# Altium schematic symbol library Connector_.SchLib: 121 symbols
Pins are listed as number, name and electrical type; pins without a type are passive.

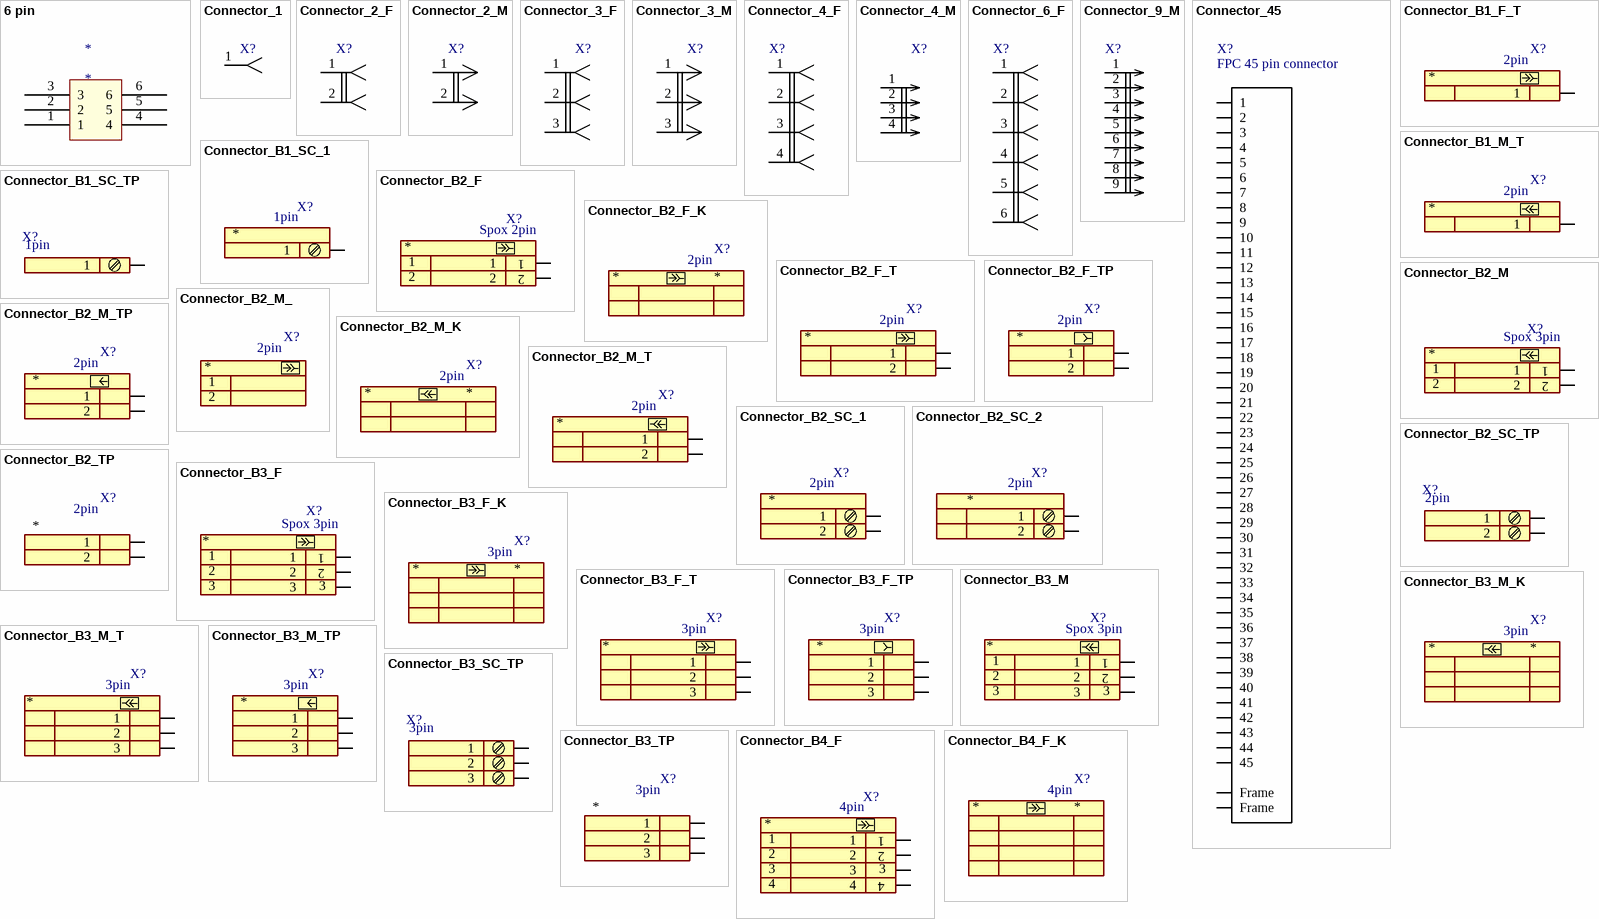
[diagram p0: symbols 6 pin to Connector_B4_F_K]

## 6 pin
designator *
pins: 1, 2, 3, 4, 5, 6

## Connector_1
designator X?, comment Connector  (value not drawn)
pins: 1

## Connector_2_F
designator X?  (value not drawn)
Connector
pins: 1, 2

## Connector_2_M
designator X?  (value not drawn)
Connector
pins: 1, 2

## Connector_3_F
designator X?  (value not drawn)
Connector
pins: 1, 2, 3

## Connector_3_M
designator X?  (value not drawn)
Connector
pins: 1, 2, 3

## Connector_4_F
designator X?  (value not drawn)
Connector
pins: 1, 2, 3, 4

## Connector_4_M
designator X?  (value not drawn)
Connector
pins: 1, 2, 3, 4

## Connector_6_F
designator X?  (value not drawn)
Connector
pins: 1, 2, 3, 4, 5, 6

## Connector_9_M
designator X?  (value not drawn)
Connector
pins: 1, 2, 3, 4, 5, 6, 7, 8, 9

## Connector_45
designator X?, comment FPC 45 pin connector
footprint FPC-45-0.5
pins: 1, 2, 3, 4, 5, 6, 7, 8, 9, 10, 11, 12, 13, 14, 15, 16, 17, 18, 19, 20, 21, 22, 23, 24, 25, 26, 27, 28, 29, 30, 31, 32, 33, 34, 35, 36, 37, 38, 39, 40, 41, 42, 43, 44, 45, 46 Frame, 47 Frame

## Connector_B1_F_T
designator X?  value 2pin  (hidden comment: *)
Connector; Catalog: *; catalog number: *; PCB value: *
pins: 1

## Connector_B1_M_T
designator X?  value 2pin  (hidden comment: *)
Connector; Catalog: *; catalog number: *; PCB value: *
pins: 1

## Connector_B1_SC_1
designator X?  value 1pin  (hidden comment: *)
Connector; Catalog: *; Catalog number: *; PCB value: *
pins: 1

## Connector_B1_SC_TP
designator X?  value 1pin  (hidden comment: *)
Connector; Catalog: *; Catalog number: *; PCB value: *
footprint PK 7402
pins: 1

## Connector_B2_F
designator X?  value Spox 2pin  (hidden comment: *)
Connector; Catalog: *; catalog number: *; PCB value: *
pins: 1, 2

## Connector_B2_F_K
designator X?  value 2pin  (hidden comment: *)
Connector; Catalog: *; catalog number: *; PCB value: *; PCB Value: *

## Connector_B2_F_T
designator X?  value 2pin  (hidden comment: *)
Connector; Catalog: *; catalog number: *; PCB value: *
pins: 1, 2

## Connector_B2_F_TP
designator X?  value 2pin  (hidden comment: *)
Connector; Catalog: *; catalog number: *; PCB value: *
pins: 1, 2

## Connector_B2_M
designator X?  value Spox 3pin  (hidden comment: *)
Connector; Catalog: *; Catalog number: *; PCB value: *
pins: 1, 2

## Connector_B2_M_
designator X?  value 2pin  (hidden comment: *)
Connector; Catalog: *; catalog number: *; PCB value: *
text: 1; 2

## Connector_B2_M_K
designator X?  value 2pin  (hidden comment: *)
Connector; Catalog: *; catalog number: *; PCB value: *; PCB Value_: *

## Connector_B2_M_T
designator X?  value 2pin  (hidden comment: *)
Connector; Catalog: *; catalog number: *; PCB value: *
pins: 1, 2

## Connector_B2_M_TP
designator X?  value 2pin  (hidden comment: *)
Connector; Catalog: *; catalog number: *; PCB value: *
pins: 1, 2

## Connector_B2_SC_1
designator X?  value 2pin  (hidden comment: *)
Connector; Catalog: *; Catalog number: *; PCB value: *
pins: 1, 2

## Connector_B2_SC_2
designator X?  value 2pin  (hidden comment: *)
Connector; Catalog: *; Catalog number: *; PCB value: *
pins: 1, 2

## Connector_B2_SC_TP
designator X?  value 2pin  (hidden comment: *)
Connector; Catalog: *; Catalog number: *; PCB value: *
footprint PK 7402
pins: 1, 2

## Connector_B2_TP
designator X?  value 2pin  (hidden comment: *)
Connector; Catalog: *; catalog number: *; PCB value: *
pins: 1, 2

## Connector_B3_F
designator X?  value Spox 3pin  (hidden comment: *)
Connector; Catalog: Elfa; Catalog number: *; PCB value: *
pins: 1, 2, 3

## Connector_B3_F_K
designator X?  value 3pin  (hidden comment: *)
Connector; Catalog: *; catalog number: *; PCB value: *; PCB Value_: *

## Connector_B3_F_T
designator X?  value 3pin  (hidden comment: *)
Connector; Catalog: *; Catalog number: *; PCB value: *
pins: 1, 2, 3

## Connector_B3_F_TP
designator X?  value 3pin  (hidden comment: *)
Connector; Catalog: *; Catalog number: *; PCB value: *
pins: 1, 2, 3

## Connector_B3_M
designator X?  value Spox 3pin  (hidden comment: *)
Connector; Catalog: *; Catalog number: *; PCB value: *
pins: 1, 2, 3

## Connector_B3_M_K
designator X?  value 3pin  (hidden comment: *)
Connector; Catalog: *; catalog number: *; PCB value: *; PCB Value_: *

## Connector_B3_M_T
designator X?  value 3pin  (hidden comment: *)
Connector; Catalog: *; Catalog number: *; PCB value: *
pins: 1, 2, 3

## Connector_B3_M_TP
designator X?  value 3pin  (hidden comment: *)
Connector; Catalog: *; Catalog number: *; PCB value: *
pins: 1, 2, 3

## Connector_B3_SC_TP
designator X?  value 3pin  (hidden comment: *)
Connector; Catalog: *; Catalog number: *; PCB value: *
footprint PK 7003
pins: 1, 2, 3

## Connector_B3_TP
designator X?  value 3pin  (hidden comment: *)
Connector; Catalog: *; Catalog number: *; PCB value: *
pins: 1, 2, 3

## Connector_B4_F
designator X?  value 4pin  (hidden comment: *)
Connector; Catalog: *; Catalog number: *; PCB value: *
pins: 1, 2, 3, 4

## Connector_B4_F_K
designator X?  value 4pin  (hidden comment: *)
Connector; Catalog: *; catalog number: *; PCB value: *; PCB Value_: *

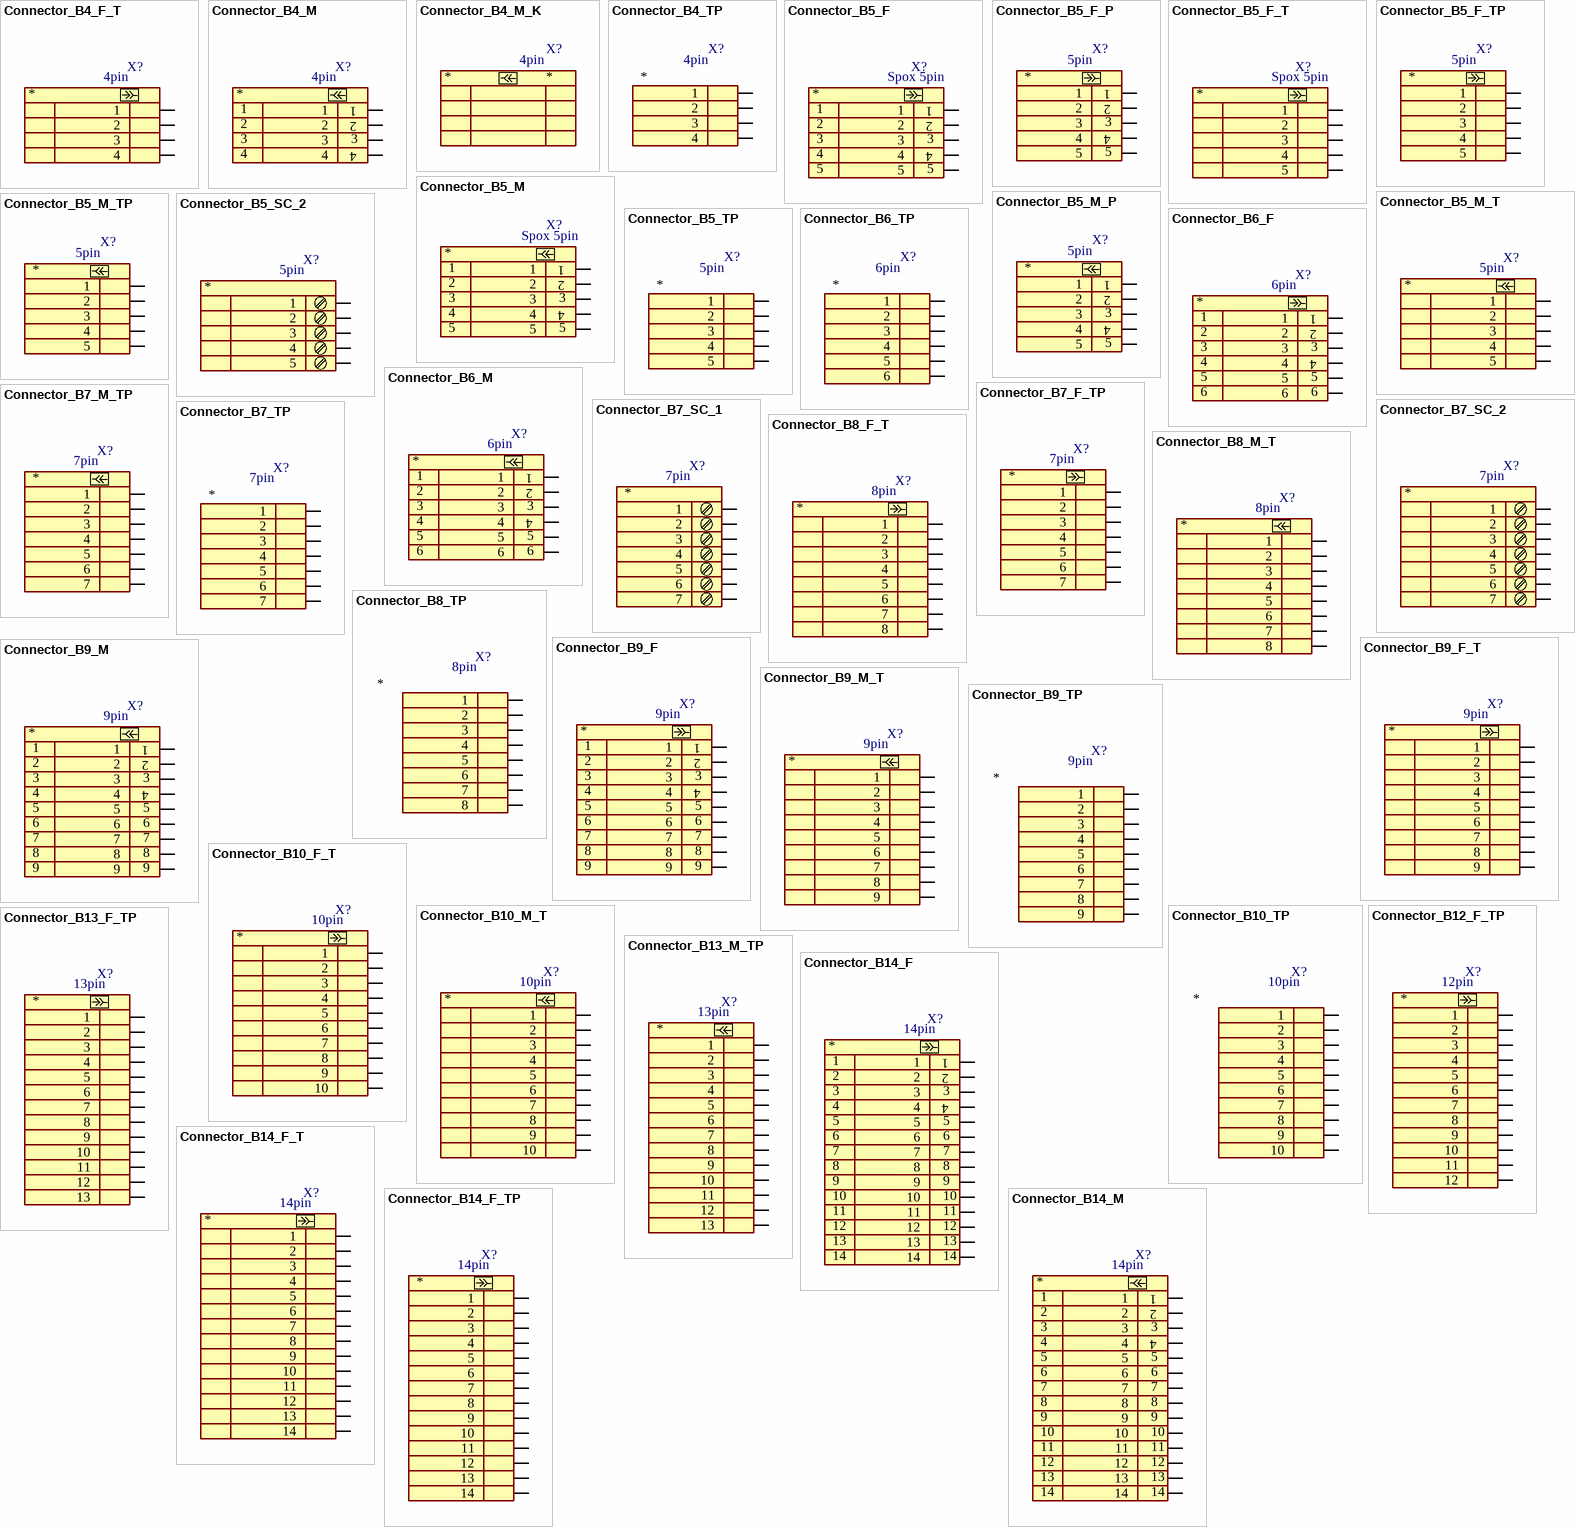
[diagram p1: symbols Connector_B4_F_T to Connector_B14_M]

## Connector_B4_F_T
designator X?  value 4pin  (hidden comment: *)
Connector; Catalog: *; Catalog number: *; PCB value: *
pins: 1, 2, 3, 4

## Connector_B4_M
designator X?  value 4pin  (hidden comment: *)
Connector; Catalog: *; Catalog number: *; PCB value: *
pins: 1, 2, 3, 4

## Connector_B4_M_K
designator X?  value 4pin  (hidden comment: *)
Connector; Catalog: *; catalog number: *; PCB value: *; PCB Value_: *

## Connector_B4_TP
designator X?  value 4pin  (hidden comment: *)
Connector; Catalog: *; Catalog number: *; PCB value: *
pins: 1, 2, 3, 4

## Connector_B5_F
designator X?  value Spox 5pin  (hidden comment: *)
Connector; Catalog: *; Catalog number: *; PCB value: *
pins: 1, 2, 3, 4, 5

## Connector_B5_F_P
designator X?  value 5pin  (hidden comment: *)
Connector; Catalog: *; Catalog number: *; PCB value: *
pins: 1, 2, 3, 4, 5

## Connector_B5_F_T
designator X?  value Spox 5pin  (hidden comment: *)
Connector; Catalog: *; Catalog number: *; PCB value: *
pins: 1, 2, 3, 4, 5

## Connector_B5_F_TP
designator X?  value 5pin  (hidden comment: *)
Connector; Catalog: *; Catalog number: *; PCB value: *
pins: 1, 2, 3, 4, 5

## Connector_B5_M
designator X?  value Spox 5pin  (hidden comment: *)
Connector; Catalog: *; Catalog number: *; PCB value: *
pins: 1, 2, 3, 4, 5

## Connector_B5_M_P
designator X?  value 5pin  (hidden comment: *)
Connector; Catalog: *; Catalog number: *; PCB value: *
pins: 1, 2, 3, 4, 5

## Connector_B5_M_T
designator X?  value 5pin  (hidden comment: *)
Connector; Catalog: *; Catalog number: *; PCB value: *
pins: 1, 2, 3, 4, 5

## Connector_B5_M_TP
designator X?  value 5pin  (hidden comment: *)
Connector; Catalog: *; Catalog number: *; PCB value: *
pins: 1, 2, 3, 4, 5

## Connector_B5_SC_2
designator X?  value 5pin  (hidden comment: *)
Connector; Catalog: *; Catalog number: *; PCB value: *
pins: 1, 2, 3, 4, 5

## Connector_B5_TP
designator X?  value 5pin  (hidden comment: *)
Connector; Catalog: *; Catalog number: *; PCB value: *
pins: 1, 2, 3, 4, 5

## Connector_B6_F
designator X?  value 6pin  (hidden comment: *)
Connector; Catalog: *; Catalog number: *; PCB value: *
pins: 1, 2, 3, 4, 5, 6

## Connector_B6_M
designator X?  value 6pin  (hidden comment: *)
Connector; Catalog: *; Catalog number: *; PCB value: *
pins: 1, 2, 3, 4, 5, 6

## Connector_B6_TP
designator X?  value 6pin  (hidden comment: *)
Connector; Catalog: *; Catalog number: *; PCB value: *
pins: 1, 2, 3, 4, 5, 6

## Connector_B7_F_TP
designator X?  value 7pin  (hidden comment: *)
Connector; Catalog: *; Catalog number: *; PCB value: *
pins: 1, 2, 3, 4, 5, 6, 7

## Connector_B7_M_TP
designator X?  value 7pin  (hidden comment: *)
Connector; Catalog: *; Catalog number: *; PCB value: *
pins: 1, 2, 3, 4, 5, 6, 7

## Connector_B7_SC_1
designator X?  value 7pin  (hidden comment: *)
Connector; Catalog: *; Catalog number: *; PCB value: *
pins: 1, 2, 3, 4, 5, 6, 7

## Connector_B7_SC_2
designator X?  value 7pin  (hidden comment: *)
Connector; Catalog: *; Catalog number: *; PCB value: *
pins: 1, 2, 3, 4, 5, 6, 7

## Connector_B7_TP
designator X?  value 7pin  (hidden comment: *)
Connector; Catalog: *; Catalog number: *; PCB value: *
pins: 1, 2, 3, 4, 5, 6, 7

## Connector_B8_F_T
designator X?  value 8pin  (hidden comment: *)
Connector; Catalog: *; Catalog number: *; PCB value: *
pins: 1, 2, 3, 4, 5, 6, 7, 8

## Connector_B8_M_T
designator X?  value 8pin  (hidden comment: *)
Connector; Catalog: *; Catalog number: *; PCB value: *
pins: 1, 2, 3, 4, 5, 6, 7, 8

## Connector_B8_TP
designator X?  value 8pin  (hidden comment: *)
Connector; Catalog: *; Catalog number: *; PCB value: *
pins: 1, 2, 3, 4, 5, 6, 7, 8

## Connector_B9_F
designator X?  value 9pin  (hidden comment: *)
Connector; Catalog: *; Catalog number: *; PCB value: *
pins: 1, 2, 3, 4, 5, 6, 7, 8, 9

## Connector_B9_F_T
designator X?  value 9pin  (hidden comment: *)
Connector; Catalog: *; Catalog number: *; PCB value: *
pins: 1, 2, 3, 4, 5, 6, 7, 8, 9

## Connector_B9_M
designator X?  value 9pin  (hidden comment: *)
Connector; Catalog: *; Catalog number: *; PCB value: *
pins: 1, 2, 3, 4, 5, 6, 7, 8, 9

## Connector_B9_M_T
designator X?  value 9pin  (hidden comment: *)
Connector; Catalog: *; Catalog number: *; PCB value: *
pins: 1, 2, 3, 4, 5, 6, 7, 8, 9

## Connector_B9_TP
designator X?  value 9pin  (hidden comment: *)
Connector; Catalog: *; Catalog number: *; PCB value: *
pins: 1, 2, 3, 4, 5, 6, 7, 8, 9

## Connector_B10_F_T
designator X?  value 10pin  (hidden comment: *)
Connector; Catalog: *; Catalog number: *; PCB value: *
pins: 1, 2, 3, 4, 5, 6, 7, 8, 9, 10

## Connector_B10_M_T
designator X?  value 10pin  (hidden comment: *)
Connector; Catalog: *; Catalog number: *; PCB value: *
pins: 1, 2, 3, 4, 5, 6, 7, 8, 9, 10

## Connector_B10_TP
designator X?  value 10pin  (hidden comment: *)
Connector; Catalog: *; Catalog number: *; PCB value: *
pins: 1, 2, 3, 4, 5, 6, 7, 8, 9, 10

## Connector_B12_F_TP
designator X?  value 12pin  (hidden comment: *)
Connector; Catalog: *; Catalog number: *; PCB value: *
pins: 1, 2, 3, 4, 5, 6, 7, 8, 9, 10, 11, 12

## Connector_B13_F_TP
designator X?  value 13pin  (hidden comment: *)
Connector; Catalog: *; Catalog number: *; PCB value: *
pins: 1, 2, 3, 4, 5, 6, 7, 8, 9, 10, 11, 12, 13

## Connector_B13_M_TP
designator X?  value 13pin  (hidden comment: *)
Connector; Catalog: *; Catalog number: *; PCB value: *
pins: 1, 2, 3, 4, 5, 6, 7, 8, 9, 10, 11, 12, 13

## Connector_B14_F
designator X?  value 14pin  (hidden comment: *)
Connector; Catalog: *; Catalog number: *; PCB value: *
pins: 1, 2, 3, 4, 5, 6, 7, 8, 9, 10, 11, 12, 13, 14

## Connector_B14_F_T
designator X?  value 14pin  (hidden comment: *)
Connector; Catalog: *; Catalog number: *; PCB value: *
pins: 1, 2, 3, 4, 5, 6, 7, 8, 9, 10, 11, 12, 13, 14

## Connector_B14_F_TP
designator X?  value 14pin  (hidden comment: *)
Connector; Catalog: *; Catalog number: *; PCB value: *
pins: 1, 2, 3, 4, 5, 6, 7, 8, 9, 10, 11, 12, 13, 14

## Connector_B14_M
designator X?  value 14pin  (hidden comment: *)
Connector; Catalog: *; Catalog number: *; PCB value: *
pins: 1, 2, 3, 4, 5, 6, 7, 8, 9, 10, 11, 12, 13, 14

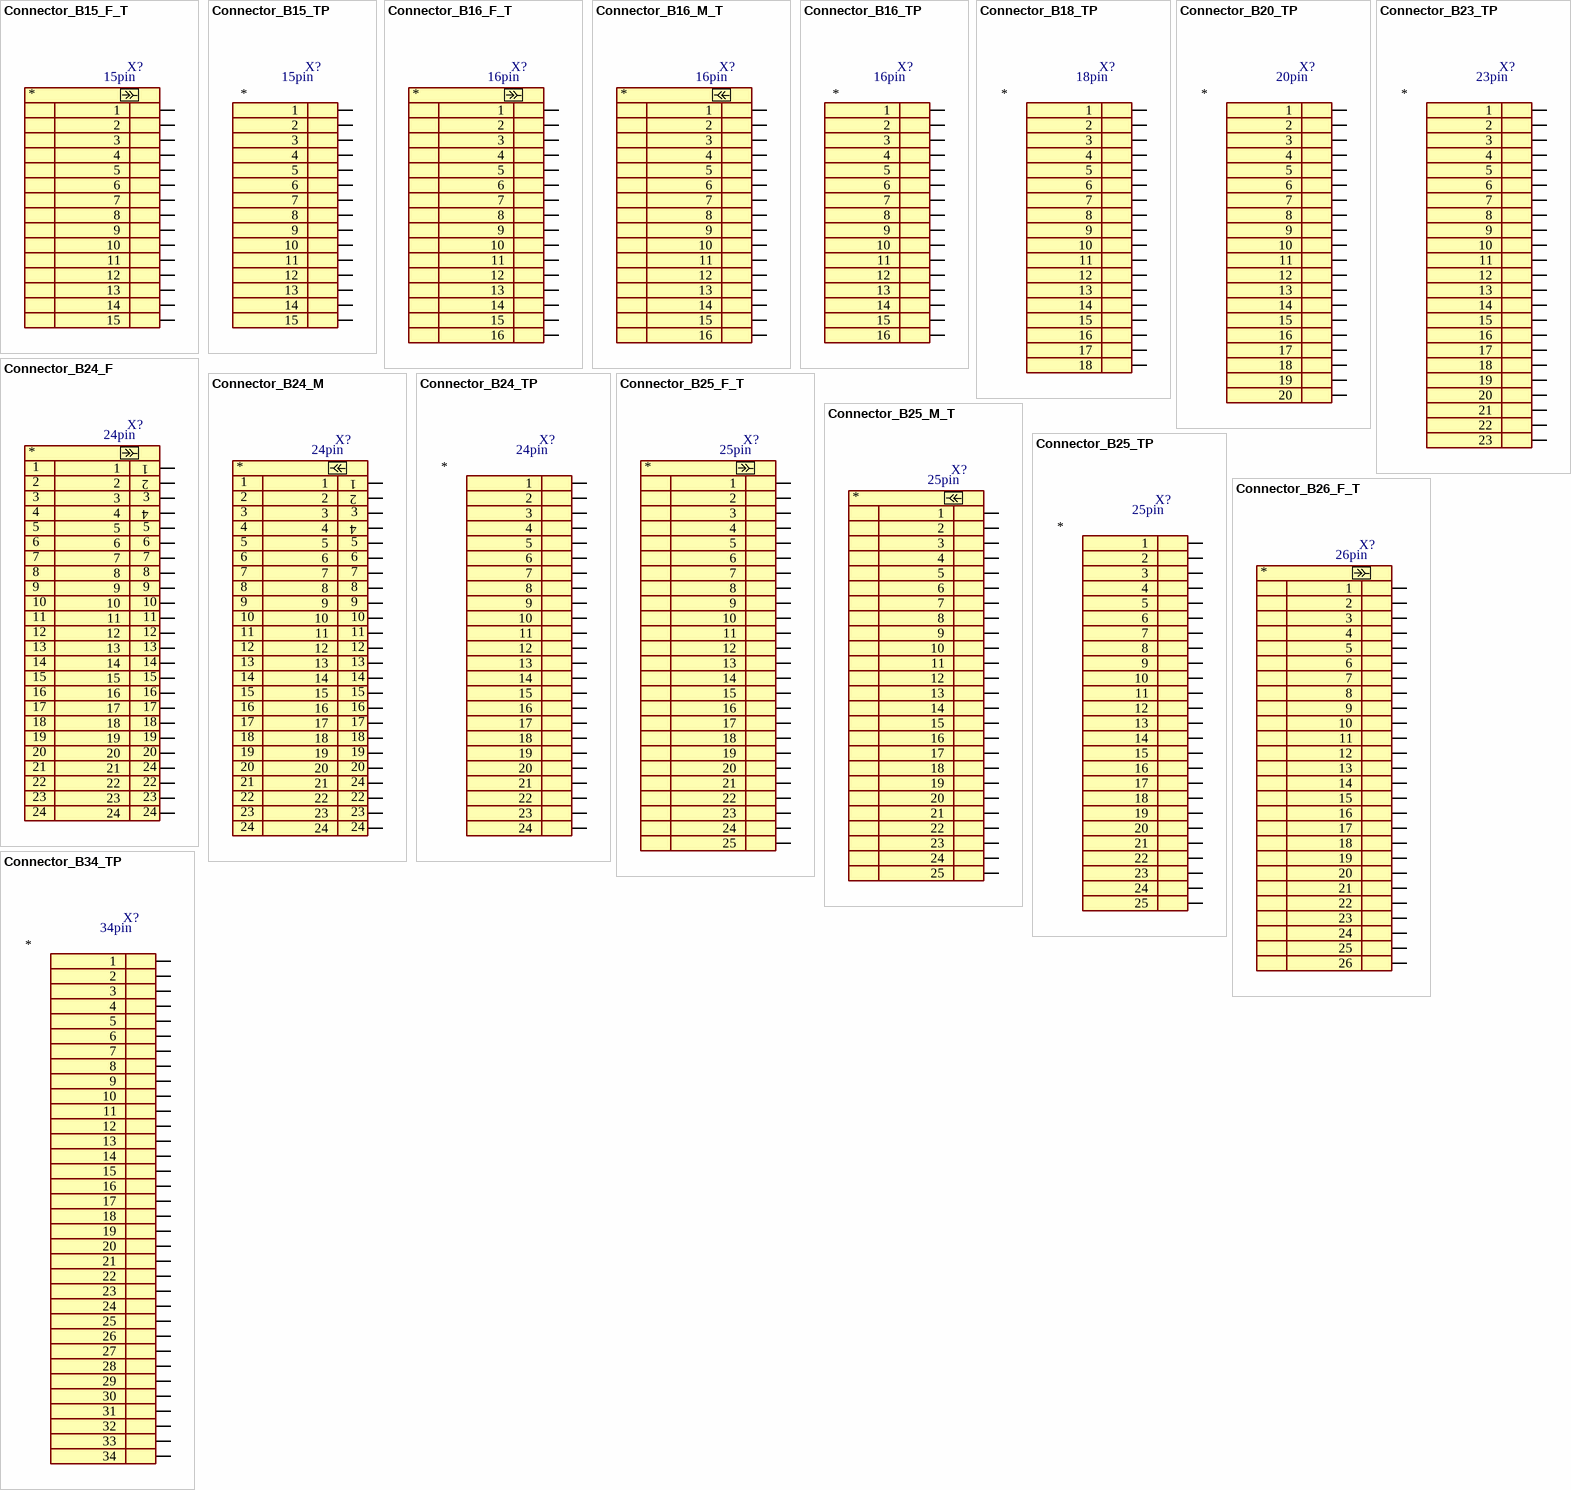
[diagram p2: symbols Connector_B15_F_T to Connector_B34_TP]

## Connector_B15_F_T
designator X?  value 15pin  (hidden comment: *)
Connector; Catalog: *; Catalog number: *; PCB value: *
pins: 1, 2, 3, 4, 5, 6, 7, 8, 9, 10, 11, 12, 13, 14, 15

## Connector_B15_TP
designator X?  value 15pin  (hidden comment: *)
Connector; Catalog: *; Catalog number: *; PCB value: *
pins: 1, 2, 3, 4, 5, 6, 7, 8, 9, 10, 11, 12, 13, 14, 15

## Connector_B16_F_T
designator X?  value 16pin  (hidden comment: *)
Connector; Catalog: *; Catalog number: *; PCB value: *
pins: 1, 2, 3, 4, 5, 6, 7, 8, 9, 10, 11, 12, 13, 14, 15, 16

## Connector_B16_M_T
designator X?  value 16pin  (hidden comment: *)
Connector; Catalog: *; Catalog number: *; PCB value: *
pins: 1, 2, 3, 4, 5, 6, 7, 8, 9, 10, 11, 12, 13, 14, 15, 16

## Connector_B16_TP
designator X?  value 16pin  (hidden comment: *)
Connector; Catalog: *; Catalog number: *; PCB value: *
pins: 1, 2, 3, 4, 5, 6, 7, 8, 9, 10, 11, 12, 13, 14, 15, 16

## Connector_B18_TP
designator X?  value 18pin  (hidden comment: *)
Connector; Catalog: *; Catalog number: *; PCB value: *
pins: 1, 2, 3, 4, 5, 6, 7, 8, 9, 10, 11, 12, 13, 14, 15, 16, 17, 18

## Connector_B20_TP
designator X?  value 20pin  (hidden comment: *)
Connector; Catalog: *; Catalog number: *; PCB value: *
pins: 1, 2, 3, 4, 5, 6, 7, 8, 9, 10, 11, 12, 13, 14, 15, 16, 17, 18, 19, 20

## Connector_B23_TP
designator X?  value 23pin  (hidden comment: *)
Connector; Catalog: *; Catalog number: *; PCB value: *
footprint FFC_Pich_1.0_22
pins: 1, 2, 3, 4, 5, 6, 7, 8, 9, 10, 11, 12, 13, 14, 15, 16, 17, 18, 19, 20, 21, 22, 23

## Connector_B24_F
designator X?  value 24pin  (hidden comment: *)
Connector; Catalog: *; Catalog number: *; PCB value: *
pins: 1, 2, 3, 4, 5, 6, 7, 8, 9, 10, 11, 12, 13, 14, 15, 16, 17, 18, 19, 20, 21, 22, 23, 24

## Connector_B24_M
designator X?  value 24pin  (hidden comment: *)
Connector; Catalog: *; Catalog number: *; PCB value: *
pins: 1, 2, 3, 4, 5, 6, 7, 8, 9, 10, 11, 12, 13, 14, 15, 16, 17, 18, 19, 20, 21, 22, 23, 24

## Connector_B24_TP
designator X?  value 24pin  (hidden comment: *)
Connector; Catalog: *; Catalog number: *; PCB value: *
pins: 1, 2, 3, 4, 5, 6, 7, 8, 9, 10, 11, 12, 13, 14, 15, 16, 17, 18, 19, 20, 21, 22, 23, 24

## Connector_B25_F_T
designator X?  value 25pin  (hidden comment: *)
Connector; Catalog: *; Catalog number: *; PCB value: *
pins: 1, 2, 3, 4, 5, 6, 7, 8, 9, 10, 11, 12, 13, 14, 15, 16, 17, 18, 19, 20, 21, 22, 23, 24, 25

## Connector_B25_M_T
designator X?  value 25pin  (hidden comment: *)
Connector; Catalog: *; Catalog number: *; PCB value: *
pins: 1, 2, 3, 4, 5, 6, 7, 8, 9, 10, 11, 12, 13, 14, 15, 16, 17, 18, 19, 20, 21, 22, 23, 24, 25

## Connector_B25_TP
designator X?  value 25pin  (hidden comment: *)
Connector; Catalog: *; Catalog number: *; PCB value: *
pins: 1, 2, 3, 4, 5, 6, 7, 8, 9, 10, 11, 12, 13, 14, 15, 16, 17, 18, 19, 20, 21, 22, 23, 24, 25

## Connector_B26_F_T
designator X?  value 26pin  (hidden comment: *)
Connector; Catalog: *; Catalog number: *; PCB value: *
pins: 1, 2, 3, 4, 5, 6, 7, 8, 9, 10, 11, 12, 13, 14, 15, 16, 17, 18, 19, 20, 21, 22, 23, 24, 25, 26

## Connector_B34_TP
designator X?  value 34pin  (hidden comment: *)
Connector; Catalog: *; Catalog number: *; PCB value: *
pins: 1, 2, 3, 4, 5, 6, 7, 8, 9, 10, 11, 12, 13, 14, 15, 16, 17, 18, 19, 20, 21, 22, 23, 24, 25, 26, 27, 28, 29, 30, 31, 32, 33, 34

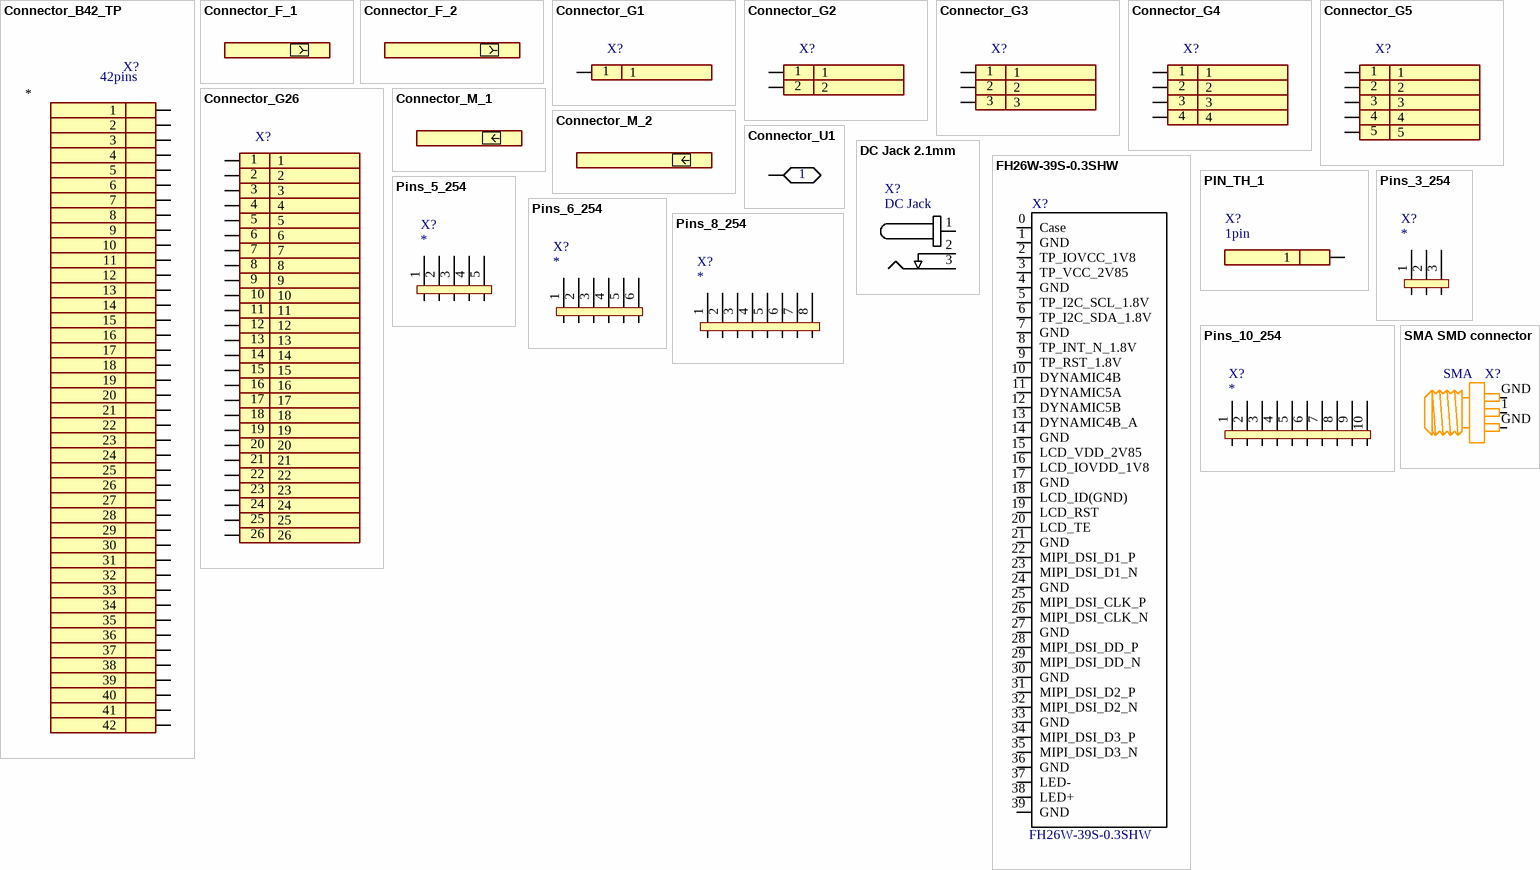
[diagram p3: symbols Connector_B42_TP to SMA SMD connector]

## Connector_B42_TP
designator X?  value 42pins  (hidden comment: *)
Connector; Catalog: *; Catalog number: *; PCB value: *
pins: 1, 2, 3, 4, 5, 6, 7, 8, 9, 10, 11, 12, 13, 14, 15, 16, 17, 18, 19, 20, 21, 22, 23, 24, 25, 26, 27, 28, 29, 30, 31, 32, 33, 34, 35, 36, 37, 38, 39, 40, 41, 42

## Connector_F_1
designator X?  (value not drawn)
Connector; Value: F_1; Catalog: *; Catalog number: *; PCB value: *

## Connector_F_2
designator X?  (value not drawn)
Connector; Value: F_2; Catalog: *; Catalog number: *; PCB value: *

## Connector_G1
designator X?  (value not drawn)
Connector
pins: 1

## Connector_G2
designator X?  (value not drawn)
Connector
pins: 1, 2

## Connector_G3
designator X?, comment IDC  (value not drawn)
Connector; Catalog: *; Catalog number: *; Value: *; Catalog page: *
pins: 1, 2, 3

## Connector_G4
designator X?, comment IDC  (value not drawn)
Connector; Catalog: *; Catalog number: *; Value: *; Catalog page: *
pins: 1, 2, 3, 4

## Connector_G5
designator X?  (value not drawn)
Connector; Catalog: *; Catalog number: *; Value: *; Catalog page: *
pins: 1, 2, 3, 4, 5

## Connector_G26
designator X?, comment IDC  (value not drawn)
Connector; Catalog: *; Catalog number: *; Value: *; Catalog page: *
pins: 1, 2, 3, 4, 5, 6, 7, 8, 9, 10, 11, 12, 13, 14, 15, 16, 17, 18, 19, 20, 21, 22, 23, 24, 25, 26

## Connector_M_1
designator X?  (value not drawn)
Connector; Value: F_1; Catalog: *; Catalog number: *; PCB value: *

## Connector_M_2
designator X?  (value not drawn)
Connector; Value: M_2; Catalog: *; Catalog number: *; PCB value: *

## Connector_U1
designator Un?  Un: 1  (hidden comment: *)
Uncnovn
pins: 1

## DC Jack 2.1mm
designator X?, comment DC Jack
Catalog: Farnell; Value: *; Catalog number: *; Price: *
footprint DC Jack 2.1mm
pins: 1 +, 2 -, 3 -

## FH26W-39S-0.3SHW
designator X?, comment Part Number: FH26W-39S-0.3SHW  (hidden comment: 0.3mm pitch, 2 row, bottom contact, front hinge FPC connector)
Manufacturer: Hirose; Price 100: 2.24; Price 1: 2.79; Price 1000: 1.76
footprint FH26W-39S-0.3SHW (0.3mm Pitch, 2-row FPC Connector)
pins: 0 Case, 1 GND, 2 TP_IOVCC_1V8, 3 TP_VCC_2V85, 4 GND, 5 TP_I2C_SCL_1.8V, 6 TP_I2C_SDA_1.8V, 7 GND, 8 TP_INT_N_1.8V, 9 TP_RST_1.8V, 10 DYNAMIC4B, 11 DYNAMIC5A, 12 DYNAMIC5B, 13 DYNAMIC4B_A, 14 GND, 15 LCD_VDD_2V85, 16 LCD_IOVDD_1V8, 17 GND, 18 LCD_ID(GND), 19 LCD_RST, 20 LCD_TE, 21 GND, 22 MIPI_DSI_D1_P, 23 MIPI_DSI_D1_N, 24 GND, 25 MIPI_DSI_CLK_P, 26 MIPI_DSI_CLK_N, 27 GND, 28 MIPI_DSI_DD_P, 29 MIPI_DSI_DD_N, 30 GND, 31 MIPI_DSI_D2_P, 32 MIPI_DSI_D2_N, 33 GND, 34 MIPI_DSI_D3_P, 35 MIPI_DSI_D3_N, 36 GND, 37 LED-, 38 LED+, 39 GND

## PIN_TH_1
designator X?  value 1pin  (hidden comment: *)
Connector; Catalog: *; catalog number: *; PCB value: *
footprint PIN_1x2
pins: 1

## Pins_3_254
designator X?
3 Pins pich 2.54mm; Catalog: *; Catalog number: *; Value: *; Price: *
footprint SOCKET 3 pins 2.54mm
pins: 1, 2, 3

## Pins_5_254
designator X?
5 Pins pich 2.54mm; Catalog: *; Catalog number: *; Value: *; Price: *
footprint SOCKET HEADER 2.54mm 5pins
pins: 1, 2, 3, 4, 5

## Pins_6_254
designator X?
6 Pins pich 2.54mm; Catalog: *; Catalog number: *; Value: *; Price: *
footprint SOCKET 6 pins 2.54mm V2
pins: 1, 2, 3, 4, 5, 6

## Pins_8_254
designator X?
8 Pins pich 2.54mm; Catalog: *; Catalog number: *; Value: *; Price: *
footprint SOCKET 8 pins 2.54mm V2
pins: 1, 2, 3, 4, 5, 6, 7, 8

## Pins_10_254
designator X?
10 Pins pich 2.54mm; Catalog: *; Catalog number: *; Value: *; Price: *
footprint SOCKET 10 pins 2.54mm V2
pins: 1, 2, 3, 4, 5, 6, 7, 8, 9, 10

## SMA SMD connector
designator X?, comment SMA
Catalog: *; Catalog number: *; PCB value: *; Value: *; Catalog page: *
footprint SMA_SMD
pins: 1, GND, GND

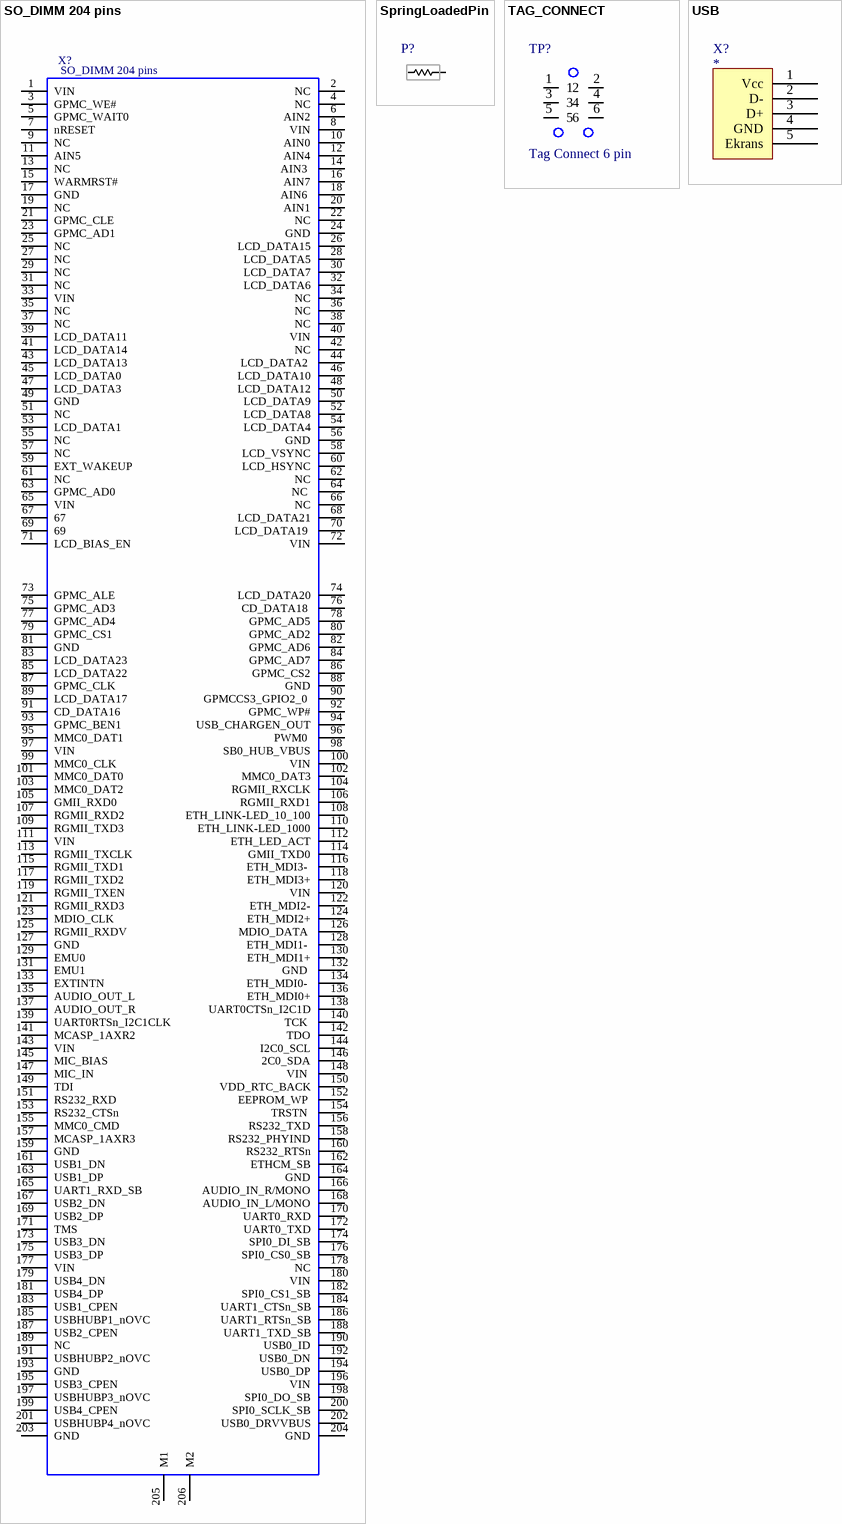
[diagram p4: symbols SO_DIMM 204 pins to USB]

## SO_DIMM 204 pins
designator X?
SO_DIMM 204 pins h=9.2mm; Manufacturer Number: 2-2013311-1; Manufacturer: TE Conectivity; Catalog: DigiKey; Catalog Number: A111122CT-ND; Value: SO_DIMM 204 pins; Price: 3.55
footprint SODIMM-204 V3 MODULE
pins: 1 VIN, 2 NC, 3 GPMC_WE#, 4 NC, 5 GPMC_WAIT0, 6 AIN2, 7 nRESET, 8 VIN, 9 NC, 10 AIN0, 11 AIN5, 12 AIN4, 13 NC, 14 AIN3 , 15 WARMRST#, 16 AIN7, 17 GND, 18 AIN6 , 19 NC , 20 AIN1, 21 GPMC_CLE , 22 NC, 23 GPMC_AD1, 24 GND, 25 NC, 26 LCD_DATA15, 27 NC, 28 LCD_DATA5, 29 NC, 30 LCD_DATA7, 31 NC, 32 LCD_DATA6, 33 VIN, 34 NC, 35 NC , 36 NC, 37 NC , 38 NC, 39 LCD_DATA11, 40 VIN, 41 LCD_DATA14, 42 NC, 43 LCD_DATA13, 44 LCD_DATA2 , 45 LCD_DATA0, 46 LCD_DATA10, 47 LCD_DATA3, 48 LCD_DATA12, 49 GND, 50 LCD_DATA9, 51 NC , 52 LCD_DATA8, 53 LCD_DATA1, 54 LCD_DATA4, 55 NC, 56 GND, 57 NC, 58 LCD_VSYNC, 59 EXT_WAKEUP, 60 LCD_HSYNC, 61 NC, 62 NC, 63 GPMC_AD0 , 64 NC , 65 VIN, 66 NC, 67, 68 LCD_DATA21, 69, 70 LCD_DATA19 , 71 LCD_BIAS_EN, 72 VIN, 73 GPMC_ALE, 74 LCD_DATA20, 75 GPMC_AD3, 76 CD_DATA18 , 77 GPMC_AD4, 78 GPMC_AD5, 79 GPMC_CS1, 80 GPMC_AD2, 81 GND , 82 GPMC_AD6, 83 LCD_DATA23, 84 GPMC_AD7, 85 LCD_DATA22, 86 GPMC_CS2, 87 GPMC_CLK, 88 GND, 89 LCD_DATA17, 90 GPMCCS3_GPIO2_0 , 91 CD_DATA16 , 92 GPMC_WP#, 93 GPMC_BEN1, 94 USB_CHARGEN_OUT, 95 MMC0_DAT1, 96 PWM0 , 97 VIN , 98 SB0_HUB_VBUS, 99 MMC0_CLK, 100 VIN, 101 MMC0_DAT0, 102 MMC0_DAT3, 103 MMC0_DAT2, 104 RGMII_RXCLK, 105 GMII_RXD0, 106 RGMII_RXD1, 107 RGMII_RXD2, 108 ETH_LINK-LED_10_100, 109 RGMII_TXD3, 110 ETH_LINK-LED_1000, 111 VIN, 112 ETH_LED_ACT, 113 RGMII_TXCLK, 114 GMII_TXD0, 115 RGMII_TXD1, 116 ETH_MDI3- , 117 RGMII_TXD2, 118 ETH_MDI3+, 119 RGMII_TXEN, 120 VIN, 121 RGMII_RXD3, 122 ETH_MDI2-, 123 MDIO_CLK, 124 ETH_MDI2+, 125 RGMII_RXDV, 126 MDIO_DATA , 127 GND , 128 ETH_MDI1- , 129 EMU0 , 130 ETH_MDI1+, 131 EMU1 , 132 GND , 133 EXTINTN, 134 ETH_MDI0- , 135 AUDIO_OUT_L, 136 ETH_MDI0+, 137 AUDIO_OUT_R , 138 UART0CTSn_I2C1D, 139 UART0RTSn_I2C1CLK, 140 TCK , 141 MCASP_1AXR2, 142 TDO, 143 VIN , 144 I2C0_SCL, 145 MIC_BIAS, 146 2C0_SDA, 147 MIC_IN , 148 VIN , 149 TDI, 150 VDD_RTC_BACK, 151 RS232_RXD, 152 EEPROM_WP , 153 RS232_CTSn, 154 TRSTN , 155 MMC0_CMD, 156 RS232_TXD, 157 MCASP_1AXR3, 158 RS232_PHYIND, 159 GND , 160 RS232_RTSn, 161 USB1_DN, 162 ETHCM_SB, 163 USB1_DP , 164 GND, 165 UART1_RXD_SB, 166 AUDIO_IN_R/MONO, 167 USB2_DN , 168 AUDIO_IN_L/MONO, 169 USB2_DP, 170 UART0_RXD, 171 TMS, 172 UART0_TXD, 173 USB3_DN , 174 SPI0_DI_SB, 175 USB3_DP, 176 SPI0_CS0_SB, 177 VIN , 178 NC, 179 USB4_DN, 180 VIN, 181 USB4_DP , 182 SPI0_CS1_SB, 183 USB1_CPEN , 184 UART1_CTSn_SB, 185 USBHUBP1_nOVC, 186 UART1_RTSn_SB, 187 USB2_CPEN , 188 UART1_TXD_SB, 189 NC, 190 USB0_ID, 191 USBHUBP2_nOVC, 192 USB0_DN, 193 GND, 194 USB0_DP, 195 USB3_CPEN, 196 VIN, 197 USBHUBP3_nOVC , 198 SPI0_DO_SB, 199 USB4_CPEN, 200 SPI0_SCLK_SB, 201 USBHUBP4_nOVC, 202 USB0_DRVVBUS, 203 GND, 204 GND, 205 M1, 206 M2

## SpringLoadedPin
designator P?, comment Spring loaded pin  (value not drawn)
Manufacturer: MULTICOMP; Part Number: P50-B-120-G; Price 1: 0.8; Price 100: 0.57; Price 1000: 0.5
footprint P50 (Spring loaded probe)
pins: 1

## TAG_CONNECT
designator TP?, comment Tag Connect 6 pin  (no BOM)
footprint Tag_connector_1 (Programming pads)
pins: 1, 2, 3, 4, 5, 6

## USB
designator X?
Catalog: *; Value: *; Price: *; Catalog number: *
footprint USB_A_D
footprint USB_B_D
footprint USB_Mini_B
footprint USB Micro B top mount
pins: 1 Vcc (power), 2 D-, 3 D+, 4 GND (power), 5 Ekrans